# Altium integrated library RCWCTE.IntLib: 1 symbol
Pins are listed as number, name and electrical type; pins without a type are passive.

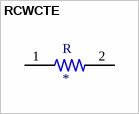
[diagram p0: symbol RCWCTE]

## RCWCTE
designator R
PC Test Point , Plating Surface Mount Mounting Type; MF: KOA Speer; MP: RCWCTE; Package: 1206 KOA Speer; Value: *; Price: None; Availability: Unavailable; SnapEDA_Link: https://www.snapeda.com/parts/RCWCTE/KOA%20Speer/view-part/1310479/?ref=snap
footprint RESC3216X70N
pins: 1, 2